# Altium footprint library CON2.54x4.PcbLib: 1 footprints
Each footprint in its own frame and in the unit in brackets; x right, y up, seen from the top. Pads: shape width x height; smd on the part's side, far side on the other; paste and mask are expansions set on the pad; w line width, h text height; cw(c..) or ccw(c..) is an arc to the next point about the centre after c.
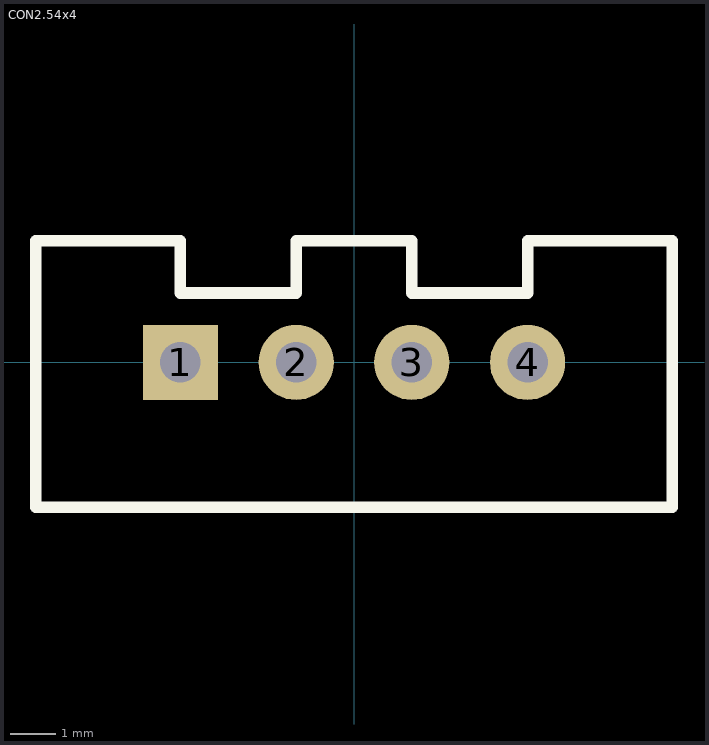
[diagram p0: the footprint, top view; thin cyan lines are the x and y axes]

## CON2.54x4 [mil] "连接器"
pads (4):
  rect 65x65 hole 35: 1(-150,0)
  round 65 hole 35: 2(-50,0) 3(50,0) 4(150,0)
Top Overlay:
  lines w10: -275,-125 275,-125 275,105 150,105 150,60 50,60 50,105 -50,105 -50,60 -150,60 -150,105 -275,105 -275,-125